# EAGLE library part 182-025-213R (library con-subd)
CONN DB25 FEMAL .318" R/A NICKEL
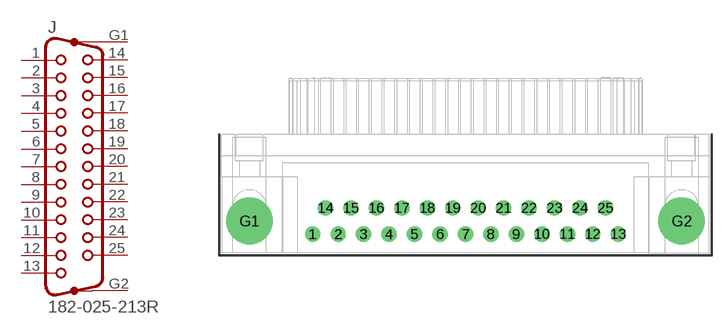
[diagram p91: symbol with the pads of 182-025-213R; footprint 182-025-213R]

Designator prefix J

## 182-025-213R  [182-025-213R]
1  1  pas
2  2  pas
3  3  pas
4  4  pas
5  5  pas
6  6  pas
7  7  pas
8  8  pas
9  9  pas
10  10  pas
11  11  pas
12  12  pas
13  13  pas
14  14  pas
15  15  pas
16  16  pas
17  17  pas
18  18  pas
19  19  pas
20  20  pas
21  21  pas
22  22  pas
23  23  pas
24  24  pas
25  25  pas
G1  G1  pas
G2  G2  pas

## Footprint 182-025-213R (pad centres in mm)
NORCOMP Right Angle D-Sub Connector FEMALE 182 Economy Series (.318" Footprint)
drill 1.016 pad 1.676: 1 -16.62,-1.42; 2 -13.85,-1.42; 3 -11.08,-1.42; 4 -8.31,-1.42; 5 -5.54,-1.42; 6 -2.77,-1.42; 7 0,-1.42; 8 2.77,-1.42; 9 5.54,-1.42; 10 8.31,-1.42; 11 11.08,-1.42; 12 13.85,-1.42; 13 16.62,-1.42; 14 -15.235,1.42; 15 -12.465,1.42; 16 -9.695,1.42; 17 -6.925,1.42; 18 -4.155,1.42; 19 -1.385,1.42; 20 1.385,1.42; 21 4.155,1.42; 22 6.925,1.42; 23 9.695,1.42; 24 12.465,1.42; 25 15.235,1.42
drill 3.251 pad 5.08: G1 -23.52,0; G2 23.52,0